# Altium schematic symbol library ESP32.SchLib: 28 symbols
Pins are listed as number, name and electrical type; pins without a type are passive.

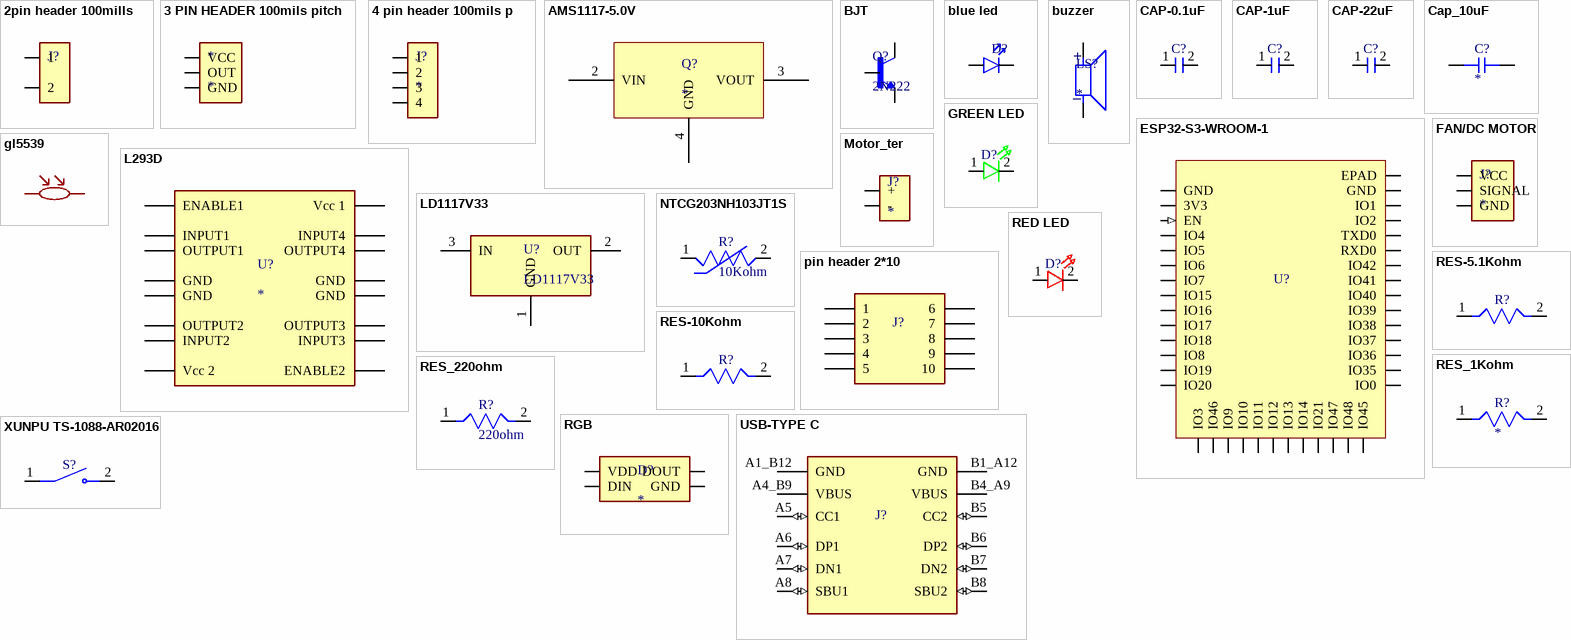
[diagram p0: symbols 2pin header 100mills to XUNPU TS-1088-AR02016]

## 2pin header 100mills
designator J?  (value not drawn)
footprint 2 PIN header2.54
pins: 1, 2

## 3 PIN HEADER 100mils pitch
designator *
MFR: Harwin; MPN: M20-9990346; SUPPLIER: LCSC; SUPPLIER PART #: C5355646
footprint 3 pin header 100 mils
pins: 1 VCC, 2 OUT, 3 GND

## 4 pin header 100mils p
designator J?
MFR: Harwin; MPN: M20-9730446; SUPPLIER: LCSC; SUPPLIER PART #: C3348000; ComponentLink1Description: LCCSC link; ComponentLink1URL: https://www.lcsc.com/product-detail/C3348000.html?s_z=n_q_M20-9730446&spm=wm.fly.bg.0.cbh&lcsc_vid=RwUNAlQEFVQKBl1XEgMNU1FXTwNbUQdRRANXVFFRFVMxVlNeQFJbUlVVT1heUjsOAxUeFF5JWBYZEEoKFBINSQcJGk4NBhADEA4cHktRTlNADxALGw%3D%3D
footprint pin header 4 pos 100mil
pins: 1, 2, 3, 4

## AMS1117-5.0V
designator Q?
MNF part no: AMS1117-5.0; MNF: Advanced Monolithic Systems; supplier: lcsc; supplier part no: C6187; ComponentLink1Description: datasheet; ComponentLink1URL: https://www.lcsc.com/datasheet/C6187.pdf?spm=wm.sxq.inf.ggs___wm.fly.bg.0.stp&lcsc_vid=FgNZXwIFQgRbX1BSE1YMAwJTQFFaV1ACT1lWXwYHElExVlNeQVVZVFNQRFJeVzsOAxUeFF5JWBYZEEoKFBINSQcJGk4NBhADEA4cHktXRlVcSQwSGg0%3D
footprint AMS1117-5.0V
pins: 2 VIN, 3 VOUT, 4 GND

## BJT
designator Q?, comment 2N222
TRANS NPN 40V 0.6A TO-92; Manufacturer: Slkor; MPN: 2N2222A; SPN: C5330385; SUPPLIER: LCSC; ComponentLink1Description: New link; ComponentLink1URL: https://www.lcsc.com/product-detail/C5330385.html?s_z=n_q_t_2N222&spm=wm.fly.bg.2.xh___wm.ssy.tc.0.tz&lcsc_vid=RwJaUAYDQFdbVQJWRFldAwZXT1FfBlJXEVZaAgZTTwQxVlNeT1ZeUF1TR1JYVzsOAxUeFF5JWBYZEEoKFBINSQcJGk4dAgUUFAk%3D
footprint TO92254P470H750-3
pins: 1 E, 2 B, 3 C

## blue led
designator D?  (value not drawn)
LED BLUE 0603 SMD; MFR: YONGYUTAI; MFR part #: YLED0603B; supllier part #: C19171394; supplier: lcsc; ComponentLink1Description: link; ComponentLink1URL: https://www.lcsc.com/product-detail/C19171394.html?s_z=n_q_p_led%2520blue&spm=wm.ssy.bg.1.cbh&lcsc_vid=RwJaUAYDQFdbVQJWRFldAwZXT1FfBlJXEVZaAgZTTwQxVlNeT1ddUVJeTlheVjsOAxUeFF5JWBYZEEoKFBINSQcJGk4NBhADEA4cHktfQlZADxALGw%3D%3D
footprint blue led
pins: 1, 2

## buzzer
designator LS?
BUZZER MAGNETIC 4V~8V 12mm TH; MFR: Huaneng; MPN: TMB12A05; SUPPLIER: LCSC; SUPPLIER PART #: C96093; ComponentLink1Description: New link; ComponentLink1URL: *
footprint buzzer
pins: N, P
text: +; _

## CAP-0.1uF
designator C?  (value not drawn)
CAP CER 100nF 50V X7R 0603; Manufactor: Samsung Electro-Mechanics; MFN: CL10B104KB8NNNC; SPN: C1591; Supplier: LCSC; ComponentLink1Description: New link; ComponentLink1URL: https://www.lcsc.com/product-detail/C1591.html?s_z=n_q_t_Capacitors%25200.1uF&spm=wm.fly.bg.0.cbh___wm.ssy.tc.0.tz&lcsc_vid=FgNZXwIFQgRbX1BSE1YMAwJTQFFaV1ACT1lWXwYHElExVlNeT1NfVlRfT1VbXjsOAxUeFF5JWBYZEEoKFBINSQcJGk4NBhADEA4cHktXRlVcSQwSGg0%3D
footprint CAPC1608X50N (Chip Capacitor, 2-Leads, Body 1.60x0.80mm, IPC Medium Density)
pins: 1, 2

## CAP-1uF
designator C?  (value not drawn)
CAP CER 1uF 25V X7R 0603; Manufactor: Samsung Electro-Mechanics; MFN: CL10B105KA8NNNC; SPN: C29936; Supplier: LCSC; ComponentLink1Description: New link; ComponentLink1URL: https://www.lcsc.com/product-detail/C29936.html?s_z=n_q_t_Capacitors%25201uF&spm=wm.fly.bg.0.cbh___wm.ssy.tc.0.tz&lcsc_vid=FgNZXwIFQgRbX1BSE1YMAwJTQFFaV1ACT1lWXwYHElExVlNeT1NfV1dSQVdWUTsOAxUeFF5JWBYZEEoKFBINSQcJGk4NBhADEA4cHktXRlVcSQwSGg0%3D
footprint CAPC1608X50N (Chip Capacitor, 2-Leads, Body 1.60x0.80mm, IPC Medium Density)
pins: 1, 2

## CAP-22uF
designator C?  (value not drawn)
CAP CER 22uF 25V X5R 0805; Manufactor: muRata; MFN: GRM21BR61E226ME44L; SPN: C86816; Supplier: LCSC; ComponentLink1Description: New link; ComponentLink1URL: https://www.lcsc.com/product-detail/C86816.html?s_z=n_q_t_Capacitors%252022uF&spm=wm.fly.bg.0.cbh___wm.ssy.tc.2.tz&lcsc_vid=FgNZXwIFQgRbX1BSE1YMAwJTQFFaV1ACT1lWXwYHElExVlNeT1NfVlZVT1FZUTsOAxUeFF5JWBYZEEoKFBINSQcJGk4dAgUUFAk%3D
footprint CAPC2012X125N (Chip Capacitor, 2-Leads, Body 2.00x1.25mm, IPC Medium Density)
pins: 1, 2

## Cap_10uF
designator C?
MFR: Samsung Electro-Mechanics; MFR part*: CL21A106KAYNNNE; supplier: *lcsc; supplier part*: C15850; ComponentLink1Description: datasheet; ComponentLink1URL: FgNZXwIFQgRbX1BSE1YMAwJTQFFaV1ACT1lWXwYHElExVlNeQVVaXlRSQFNZVzsOAxUeFF5JWBYZEEoKFBINSQcJGk4NBhADEA4cHktURFVfSQwSGg0
footprint cap_0805
pins: 1, 2

## ESP32-S3-WROOM-1
designator U?
2.4 GHz Wi-Fi + Bluetooth + Bluetooth LE module; Manufactor: ESPRESSIF; MFN: ESP32-WROOM-32E-N4; SPN: C701341; supplier: LCSC; ComponentLink1Description: LCSC link; ComponentLink1URL: *
footprint ESP32-S3-WROOM-1
pins: 1 GND (power), 2 3V3 (power), 3 EN (in), 4 IO4 (io), 5 IO5 (io), 6 IO6 (io), 7 IO7 (io), 8 IO15 (io), 9 IO16 (io), 10 IO17 (io), 11 IO18 (io), 12 IO8 (io), 13 IO19 (io), 14 IO20 (io), 15 IO3 (io), 16 IO46 (io), 17 IO9 (io), 18 IO10 (io), 19 IO11 (io), 20 IO12 (io), 21 IO13 (io), 22 IO14 (io), 23 IO21 (io), 24 IO47 (io), 25 IO48 (io), 26 IO45 (io), 27 IO0 (io), 28 IO35 (io), 29 IO36 (io), 30 IO37 (io), 31 IO38 (io), 32 IO39 (io), 33 IO40 (io), 34 IO41 (io), 35 IO42 (io), 36 RXD0 (io), 37 TXD0 (io), 38 IO2 (io), 39 IO1 (io), 40 GND (power), 41 EPAD (power)

## FAN/DC MOTOR
designator J?
MFR: Harwin; MPN: M20-9990346; SUPPLIER: LCSC; SUPPLIER PART #: C5355646
footprint 3 pin header 100 mils
pins: 1 VCC, 2 SIGNAL, 3 GND

## gl5539
designator R??  (value not drawn)
Dark Resistance:10MΩ Cell Resistance @ Illuminance:50kΩ~100kΩ Cell Resistance @ Illuminance:50kΩ~100kΩ Voltage - Max:150V Wavelength - Peak:540nm Rise Time:20ms Fall Time:30ms Operating Temperature:-30℃~+70℃ Operating Temperature:-30℃~+70℃ γ Value:0.8; Manufacturer: 森霸; AddInBom: yes; ModelId: 50a77439f2ea4df19a538b7b9a8c09e6; ModelName: RES-TH_L5.1-W4.3-P3.40-D0.5; ModelTransform: 169.291,200.39669,0,0,0,0,-3.937,0,-137.795; Dark Resistance: 10MΩ; Voltage - Max: 150V; Wavelength - Peak: 540nm; Rise Time: 20ms; Fall Time: 30ms; γ Value: 0.8; Symbol: GL5539; LCSC Part Name: GL5539; SupplierPart: C125630; ManufacturerPart: GL5539; Supplier Footprint: 插件,P=3mm; JLCPCB Part Class: Extended Part; Datasheet: https://item.szlcsc.com/datasheet/GL5539/136908.html; Supplier: LCSC; ConvertToPcb: yes; FootprintName: RES-TH_L5.1-W4.3-P3.40-D0.5; Cell Resistance @ Illuminance: 50kΩ~100kΩ; Operating Temperature: -30℃~+70℃
footprint XDCR_PDV-P8003
pins: 1, 2

## GREEN LED
designator D?
LED GREEN WATER CLEAR 0603 SMD; Manufactor: HONGLITRONIC; MPN: PSC-1608U52GC-G4; SPN: C22371297; supplier: LCSC; ComponentLink1Description: New link; ComponentLink1URL: https://www.lcsc.com/product-detail/C22371297.html?s_z=n_q_LED%2520GREEN%25200603%2520SMD&spm=wm.fly.bg.0.cbh&lcsc_vid=RwJaUAYDQFdbVQJWRFldAwZXT1FfBlJXEVZaAgZTTwQxVlNeT1JXVlNXQ1FXXjsOAxUeFF5JWBYZEEoKFBINSQcJGk4eFQsCAgIaSgADAwAHC0slRlhfUFVVTlFADxALGw%3D%3D
footprint RED LED
pins: 1, 2

## L293D
designator U?
Bipolar Motor Driver - Parallel 16-PowerDIP; MFR: ST; MPN: L293D; SUP PART #: C12340; SUPPLIER: LCSC; ComponentLink1Description: ink; ComponentLink1URL: https://www.lcsc.com/product-detail/C12340.html?s_z=s_p_t_L293D&spm=wm.fly.bg.1.xh___wm.ssy.tc.0.tz&lcsc_vid=RwUNAlQEFVQKBl1XEgMNU1FXTwNbUQdRRANXVFFRFVMxVlNeT1NZUVRWTllfVjsOAxUeFF5JWBYZEEoKFBINSQcJGk4eFQsCAgIaSgADAwAHC0slT1RWU1RIHxUDCw%3D%3D
footprint l293D
pins: 1 ENABLE1, 2 INPUT1, 3 OUTPUT1, 4 GND (power), 5 GND (power), 6 OUTPUT2, 7 INPUT2, 8 Vcc 2 (power), 9 ENABLE2, 10 INPUT3, 11 OUTPUT3, 12 GND (power), 13 GND (power), 14 OUTPUT4, 15 INPUT4, 16 Vcc 1 (power)

## LD1117V33
designator U?
Adjustable and Fixed Low Dropout Positive Voltage Regulators; Parameter 1: ST; Parameter 2: LD1117V33C; Parameter 3: LCSC; Parameter 4: C672117; ComponentLink1Description: New link; ComponentLink1URL: https://www.lcsc.com/product-detail/C672117.html?s_z=s_p_LD1117V33&spm=wm.fly.bg.0.xh&lcsc_vid=RwJaUAYDQFdbVQJWRFldAwZXT1FfBlJXEVZaAgZTTwQxVlNeT1JbXldURlZYUjsOAxUeFF5JWBYZEEoKFBINSQcJGk4dAgUUFAk%3D
footprint ST LD1117V33C
pins: 1 GND, 2 OUT, 3 IN

## Motor_ter
designator J?
TERM BLK 2POS 2.54mm TH; MFR: Molex; MPN: 397730002; SUPPLIER: lcsc; SUPPLIER PART #: C6957573
footprint motor_terminal
pins: 1 +, 2 -

## NTCG203NH103JT1S
designator R?, comment 10Kohm
10kΩ 440uA 3590K ±5% 200mW ±3% 0805 NTC Thermistors RoHS; manufactor: TDK; MPN: NTCG203NH103JT1S; SPN: C3153798; supplier: LCSC; ComponentLink1Description: New link; ComponentLink1URL: https://www.lcsc.com/product-detail/C3153798.html?s_z=n_q_NTCG203NH103JT1S&spm=wm.fly.bg.0.xh&lcsc_vid=RwJaUAYDQFdbVQJWRFldAwZXT1FfBlJXEVZaAgZTTwQxVlNeT1ZfU1xeQFlfXjsOAxUeFF5JWBYZEEoKFBINSQcJGk4NBhADEA4cHktQRVVADxALGw%3D%3D
footprint THERM_NTCG203NH103JT1S
pins: 1, 2

## pin header 2*10
designator J?  (value not drawn)
CONN HEADER 10POS 2.54mm DUAL ROW SMD; MANUFACTOR: Amphenol; MPN: 54202-G0805LF; SPN: C3330868; SUPPLIER: LCSC; ComponentLink1Description: New link; ComponentLink1URL: https://www.lcsc.com/product-detail/C3330868.html?s_z=n_q_54202-G0805LF&spm=wm.fly.bg.0.xh&lcsc_vid=RwJaUAYDQFdbVQJWRFldAwZXT1FfBlJXEVZaAgZTTwQxVlNeT1JXVF1URVlcVDsOAxUeFF5JWBYZEEoKFBINSQcJGk4NBhADEA4cHktRTlNADxALGw%3D%3D
footprint PIN HEADER 5*2
pins: 1, 2, 3, 4, 5, 6, 7, 8, 9, 10

## RED LED
designator D?
LED RED 0603 SMD; Manufactor: YONGYUTAI YLED0603B; MPN: YLED0603B; SPN: C19171390; supplier: LCSC; ComponentLink1Description: New link; ComponentLink1URL: https://www.lcsc.com/product-detail/C19171390.html?s_z=n_q_C19171390&globalKeyword=C19171390
footprint RED LED
pins: 1, 2

## RES-5.1Kohm
designator R?, comment 5.1Kohm  (value not drawn)
RES 5.1kΩ ±1% 100mW 0603; Manufactor: FOJAN; MFN: FRC0603F5101TS; SPN: C2907044; supplier: LCSC; ComponentLink1Description: New link; ComponentLink1URL: https://www.lcsc.com/product-detail/C2907044.html?s_z=n_q_t_res%25205.1kohm&spm=wm.fly.bg.0.cbh___wm.ssy.tc.0.tz&lcsc_vid=RwJaUAYDQFdbVQJWRFldAwZXT1FfBlJXEVZaAgZTTwQxVlNeT1JYU1BUT1FdVTsOAxUeFF5JWBYZEEoKFBINSQcJGk4dAgUUFAk%3D
footprint RES (Chip Resistor, 2-Leads, Body 1.60x0.80mm, IPC Medium Density)
pins: 1, 2

## RES-10Kohm
designator R?  (value not drawn)
RES 10kΩ ±1% 100mW 0603; Manufactor: YAGEO; MFN: RC0603FR-0710KL; SPN: C98220; supplier: LCSC; ComponentLink1Description: New link; ComponentLink1URL: https://www.lcsc.com/product-detail/C98220.html?s_z=n_q_t_RESISTOR%252010K%25CE%25A9&spm=wm.fly.bg.0.cbh___wm.ssy.tc.0.tz&lcsc_vid=FgNZXwIFQgRbX1BSE1YMAwJTQFFaV1ACT1lWXwYHElExVlNeT1NeXlZQRVRWVjsOAxUeFF5JWBYZEEoKFBINSQcJGk4NBhADEA4cHktXRlhXSQwSGg0%3D
footprint RES (Chip Resistor, 2-Leads, Body 1.60x0.80mm, IPC Medium Density)
pins: 1, 2

## RES_1Kohm
designator R?
RES 1kΩ ±1% 100mW 0603; Manufactor: FOJAN; MPN: FRC0603F1001TS; SPN: C2907002; supplier: LCSC; ComponentLink1Description: New link; ComponentLink1URL: https://www.lcsc.com/product-detail/C2907002.html?s_z=n_q_t_RES%25201KOHM&spm=wm.fly.bg.0.cbh___wm.ssy.tc.0.tz&lcsc_vid=RwJaUAYDQFdbVQJWRFldAwZXT1FfBlJXEVZaAgZTTwQxVlNeT1JXVVRQQVBZUzsOAxUeFF5JWBYZEEoKFBINSQcJGk4NBhADEA4cHktSRlNADxALGw%3D%3D
footprint RES (Chip Resistor, 2-Leads, Body 1.60x0.80mm, IPC Medium Density)
pins: 1, 2

## RES_220ohm
designator R?, comment 220ohm
RES 220Ω ±1% 100mW 0603; Manufactor: UNI-ROYAL; MPN: 0603WAF2200T5E; SPN: C22962; supplier: LCSC; ComponentLink1Description: New link; ComponentLink1URL: https://www.lcsc.com/product-detail/C22962.html?s_z=n_q_t_res%2520220ohm&spm=wm.fly.bg.0.cbh___wm.ssy.tc.0.tz&lcsc_vid=RwJaUAYDQFdbVQJWRFldAwZXT1FfBlJXEVZaAgZTTwQxVlNeT1ddUFRWT1BZXzsOAxUeFF5JWBYZEEoKFBINSQcJGk4eFQsCAgIaSgADAwAHC0slRlhfUFVVTlVADxALGw%3D%3D
footprint RES (Chip Resistor, 2-Leads, Body 1.60x0.80mm, IPC Medium Density)
pins: 1, 2

## RGB
designator D?
SMD 5050 Full color RGB LED data transmission frequency up to 800Kbps, with 30 fps refresh rate, 5.00x5.00 mm; MFR: Shenzhen LED Color Optoelectronic Inc.; MPN: SMD-4 Shenzhen LED Color Optoelectronic Inc.; SUPPLIER: LCSC; SUPPLIER PART #: None
footprint RGB_LED
pins: 1 VDD (power), 2 DIN, 3 GND (power), 4 DOUT

## USB-TYPE C
designator J?
CONN RCPT Type-C 16POS SMD; manufactor: Korean Hroparts Elec; MPN: TYPE-C-31-M-12; SPN: C165948; supplier: LCSC; ComponentLink1Description: New link; ComponentLink1URL: https://www.lcsc.com/product-detail/C165948.html?s_z=n_q_p_USB%2520TYPE%2520C&spm=wm.ssy.bg.1.cbh&lcsc_vid=RwJaUAYDQFdbVQJWRFldAwZXT1FfBlJXEVZaAgZTTwQxVlNeT1JYUFVVRlNWUDsOAxUeFF5JWBYZEEoKFBINSQcJGk4NBhADEA4cHktXRlhXSQwSGg0%3D
footprint Korean Hroparts Elec TYPE-C-31-M-12 (CONN RCPT Type-C 16POS SMD)
pins: A1_B12 GND (power), A4_B9 VBUS (power), A5 CC1 (io), A6 DP1 (io), A7 DN1 (io), A8 SBU1 (io), B1_A12 GND (power), B4_A9 VBUS (power), B5 CC2 (io), B6 DP2 (io), B7 DN2 (io), B8 SBU2 (io)

## XUNPU TS-1088-AR02016
designator S?  (value not drawn)
SWITCH TACTILE SPST 160gf SMD; manufactor: XUNPU; MPN: TS-1088-AR02016; SPN: C720477; supplier: LCSC; ComponentLink1Description: New link; ComponentLink1URL: https://www.lcsc.com/product-detail/C720477.html?s_z=n_q_t_SWITCH&spm=wm.fly.bg.0.cbh___wm.ssy.tc.0.tz&lcsc_vid=FgNZXwIFQgRbX1BSE1YMAwJTQFFaV1ACT1lWXwYHElExVlNeT1BXX11UT1dfVzsOAxUeFF5JWBYZEEoKFBINSQcJGk4NBhADEA4cHktRTlVADxALGw%3D%3D
footprint XUNPU TS-1088-AR02016 (SWITCH TACTILE SPST 160gf SMD)
pins: 1, 2